# EAGLE library part D5V0F4U6SO (library Public)
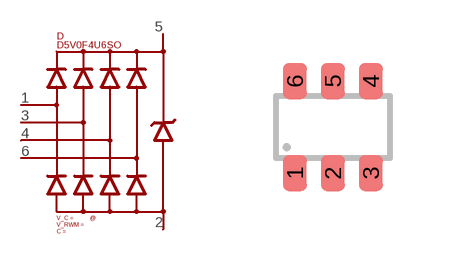
[diagram p121: symbol with the pads of SOT23-6; footprint SOT23-6]

Designator prefix D

## D5V0F4U6SO (C: 0.65pF; I_C: 3A; V_C: 12V; V_RWM: 5.5V)  [SOT23-6]
1  I/O_1
2  GND
3  I/O_2
4  I/O_3
5  VCC
6  I/O_4

## Footprint SOT23-6 (pad centres in mm)
SOT23-6 SOT26 SC59-6 SC74 TSOP-6 MO-178AB SMT6 SM6 Mini6 SOT457
smd 0.6 x 0.9: 1 -0.95,-1.15; 2 0,-1.15; 3 0.95,-1.15; 4 0.95,1.15; 5 0,1.15; 6 -0.95,1.15